# Altium schematic symbol library AD627AR.SchLib: 1 symbol
Pins are listed as number, name and electrical type; pins without a type are passive.

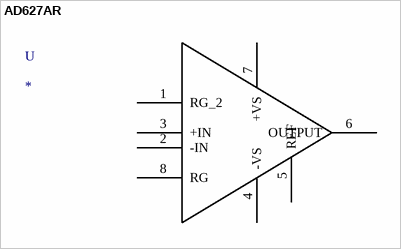
[diagram p0: symbol AD627AR]

## AD627AR
designator U
Instrumentation Amplifier 1 Circuit Rail-to-Rail 8-SOIC; MP: AD627AR; MF: Analog Devices; Price: None; Availability: Warning; Package: SOIC-8 Analog Devices; DigiKey-Purchase-URL: https://snapeda.com/shop?store=DigiKey&id=558411; Value: *; SnapEDA_Link: https://www.snapeda.com/parts/AD627AR/Analog%20Devices%20Inc./view-part/558411/?ref=snap
pins: 1 RG_2, 2 -IN, 3 +IN, 4 -VS, 5 REF, 6 OUTPUT, 7 +VS, 8 RG